# Altium schematic symbol library 22057035.Schlib: 1 symbol
Pins are listed as number, name and electrical type; pins without a type are passive.

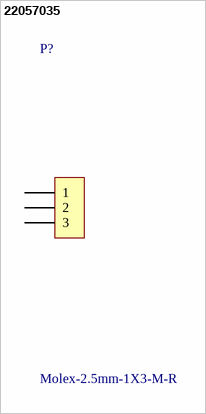
[diagram p0: symbol 22057035]

## 22057035
designator P?, comment Molex-2.5mm-1X3-M-R
2.5mm Pitch, 1X3  Male Right
pins: 1, 2, 3